# Altium footprint library CX240D5.PcbLib: 1 footprints
Each footprint in its own frame and in the unit in brackets; x right, y up, seen from the top. Pads: shape width x height; smd on the part's side, far side on the other; paste and mask are expansions set on the pad; w line width, h text height; cw(c..) or ccw(c..) is an arc to the next point about the centre after c.
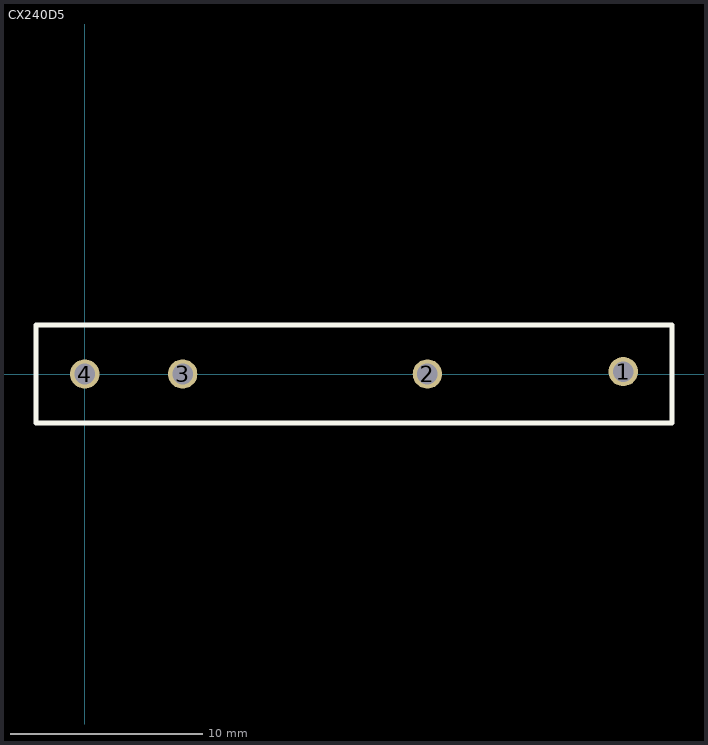
[diagram p0: the footprint, top view; thin cyan lines are the x and y axes]

## CX240D5 [mil]
pads (4):
  round 60 hole 42: 1(1100,5) 2(700,0) 3(200,0) 4(0,0)
Top Overlay:
  lines w10: -100,-100 -100,100 1200,100 1200,-100 -100,-100